# Altium footprint library PcbLib1.PcbLib: 202 footprints (part 10 of 13)
Each footprint in its own frame and in the unit in brackets; x right, y up, seen from the top. Pads: shape width x height; smd on the part's side, far side on the other; paste and mask are expansions set on the pad; w line width, h text height; cw(c..) or ccw(c..) is an arc to the next point about the centre after c.
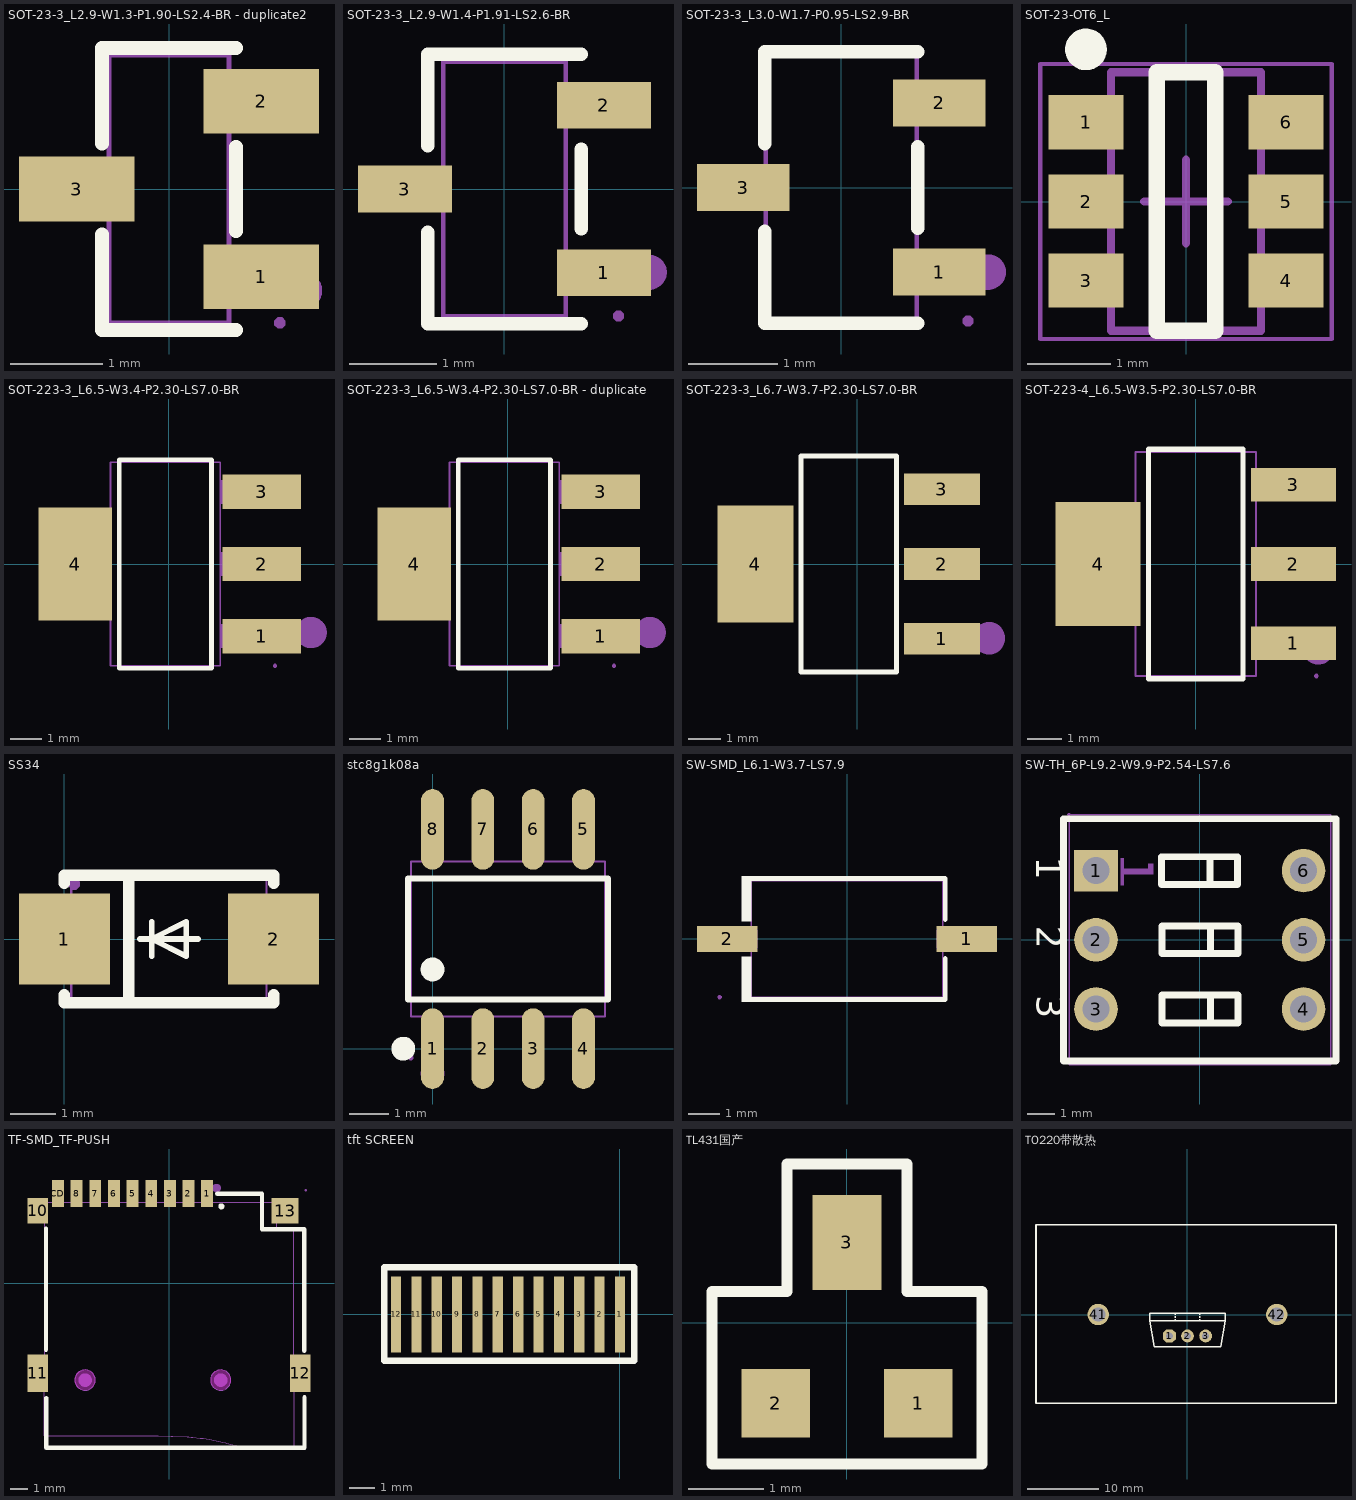
[diagram p9: the footprints below, top view; thin cyan lines are the x and y axes]

## SOT-23-3_L2.9-W1.3-P1.90-LS2.4-BR - duplicate2 [mm]
pads (3):
  rect 1.25x0.7 smd: 1(1,-0.95) 2(1,0.95) 3(-1,0)
Top Overlay:
  lines w0.152: -0.726,-0.495 -0.726,-1.526 0.726,-1.526 ; -0.726,0.495 -0.726,1.526 0.726,1.526 ; 0.726,-0.455 0.726,0.455
Mechanical 6:
  circle w0.2: c1.46,-1.1 r0.1
Mechanical 15:
  region: -1.2,-0.215 -1.2,0.215 -0.9,0.215 -0.9,-0.215
  region: -0.91,-0.215 -0.91,0.215 -0.64,0.215 -0.64,-0.215
  region: 0.9,-1.165 0.9,-0.735 1.2,-0.735 1.2,-1.165
  region: 0.64,-1.165 0.64,-0.735 0.91,-0.735 0.91,-1.165
  region: 0.9,0.735 0.9,1.165 1.2,1.165 1.2,0.735
  region: 0.64,0.735 0.64,1.165 0.91,1.165 0.91,0.735
  region: 1.26,-1.45 1.259,-1.426 1.224,-1.392 1.176,-1.392 1.141,-1.426 1.14,-1.45 1.141,-1.474 1.176,-1.508 1.224,-1.508 1.259,-1.474
  lines w0.051: -0.65,-1.45 0.65,-1.45 0.65,1.45 -0.65,1.45 -0.65,-1.45

## SOT-23-3_L2.9-W1.4-P1.91-LS2.6-BR [mm]
pads (3):
  rect 1.07x0.532 smd: 1(1.135,-0.955) 2(1.135,0.955) 3(-1.135,0)
Top Overlay:
  lines w0.152: -0.876,-0.495 -0.876,-1.536 0.876,-1.536 ; -0.876,0.495 -0.876,1.536 0.876,1.536 ; 0.876,-0.455 0.876,0.455
Mechanical 6:
  circle w0.2: c1.651,-0.95 r0.1
Mechanical 15:
  region: 1.36,-1.45 1.36,-1.425 1.325,-1.39 1.275,-1.39 1.24,-1.425 1.24,-1.45 1.24,-1.475 1.275,-1.51 1.325,-1.51 1.36,-1.475
  region: -0.96,-0.212 -0.96,0.212 -0.69,0.212 -0.69,-0.212
  region: -1.3,-0.212 -1.3,0.212 -0.95,0.212 -0.95,-0.212
  region: 0.69,0.742 0.69,1.167 0.96,1.167 0.96,0.742
  region: 0.95,0.742 0.95,1.167 1.3,1.167 1.3,0.742
  region: 0.69,-1.167 0.69,-0.742 0.96,-0.742 0.96,-1.167
  region: 0.95,-1.167 0.95,-0.742 1.3,-0.742 1.3,-1.167
  lines w0.051: -0.7,-1.45 -0.7,1.45 0.7,1.45 0.7,-1.45 -0.7,-1.45

## SOT-23-3_L3.0-W1.7-P0.95-LS2.9-BR [mm]
pads (3):
  rect 1.037x0.532 smd: 1(1.101,-0.95) 2(1.101,0.95) 3(-1.101,0)
Top Overlay:
  lines w0.152: -0.859,-0.495 -0.859,-1.526 0.859,-1.526 ; -0.859,0.495 -0.859,1.526 0.859,1.526 ; 0.859,-0.455 0.859,0.455
Mechanical 6:
  circle w0.2: c1.65,-0.95 r0.1
Mechanical 15:
  region: 1.485,-1.5 1.485,-1.475 1.45,-1.44 1.4,-1.44 1.365,-1.475 1.365,-1.5 1.365,-1.525 1.4,-1.56 1.45,-1.56 1.485,-1.525
  region: -1.01,-0.188 -1.01,0.188 -0.815,0.188 -0.815,-0.188
  region: -1.425,-0.188 -1.425,0.188 -1,0.188 -1,-0.188
  region: 0.815,0.762 0.815,1.137 1.01,1.137 1.01,0.762
  region: 1,0.762 1,1.137 1.425,1.137 1.425,0.762
  region: 0.815,-1.137 0.815,-0.762 1.01,-0.762 1.01,-1.137
  region: 1,-1.137 1,-0.762 1.425,-0.762 1.425,-1.137
  lines w0.051: -0.85,-1.5 0.85,-1.5 0.85,1.5 -0.85,1.5 -0.85,-1.5

## SOT-23-OT6_L [mm] "SOT23, 6-Leads, Body 2.9x1.6mm, Pitch 0.95mm, Lead Span 2.7mm, IPC High Density"
height 1.45
pads (6):
  rect 0.9x0.65 smd: 1(-1.2,0.95) 2(-1.2,0) 3(-1.2,-0.95) 4(1.2,-0.95) 5(1.2,0) 6(1.2,0.95)
Top Overlay:
  circle w0.25: c-1.2,1.825 r0.125
  lines w0.2: -0.35,-1.55 -0.35,1.55 0.35,1.55 0.35,-1.55 -0.35,-1.55
Mechanical 13:
  lines w0.1: -0.9,-1.55 0.9,-1.55 0.9,1.55 -0.9,1.55 -0.9,-1.55
Mechanical 15:
  lines w0.05: -1.75,-1.65 1.75,-1.65 1.75,1.65 -1.75,1.65 -1.75,-1.65
  lines w0.1: -0.5,0 0.5,0 ; 0,-0.5 0,0.5
3D body: height 1.45, standoff 0, extent -0.9,-1.55 0.9,1.55

## SOT-223-3_L6.5-W3.4-P2.30-LS7.0-BR [mm]
pads (4):
  rect 2.5x1.1 smd: 1(2.97,-2.3) 2(2.97,0) 3(2.97,2.3)
  rect 2.34x3.6 smd: 4(-2.97,0)
Top Overlay:
  lines w0.152: -1.571,-3.326 -1.571,3.326 1.371,3.326 1.371,-3.326 -1.571,-3.326
Mechanical 6:
  circle w0.5: c4.552,-2.188 r0.25
Mechanical 15:
  region: 3.46,-3.25 3.46,-3.225 3.425,-3.19 3.375,-3.19 3.34,-3.225 3.34,-3.25 3.34,-3.275 3.375,-3.31 3.425,-3.31 3.46,-3.275
  region: 1.64,1.925 1.64,2.675 2.66,2.675 2.66,1.925
  region: 2.65,1.925 2.65,2.675 3.4,2.675 3.4,1.925
  region: 1.64,-0.375 1.64,0.375 2.66,0.375 2.66,-0.375
  region: 2.65,-0.375 2.65,0.375 3.4,0.375 3.4,-0.375
  region: 1.64,-2.675 1.64,-1.925 2.66,-1.925 2.66,-2.675
  region: 2.65,-2.675 2.65,-1.925 3.4,-1.925 3.4,-2.675
  region: -2.86,-1.5 -2.86,1.5 -1.84,1.5 -1.84,-1.5
  region: -3.6,-1.5 -3.6,1.5 -2.85,1.5 -2.85,-1.5
  lines w0.051: -1.85,-3.25 -1.85,3.25 1.65,3.25 1.65,-3.25 -1.85,-3.25

## SOT-223-3_L6.5-W3.4-P2.30-LS7.0-BR - duplicate [mm]
pads (4):
  rect 2.5x1.1 smd: 1(2.97,-2.3) 2(2.97,0) 3(2.97,2.3)
  rect 2.34x3.6 smd: 4(-2.97,0)
Top Overlay:
  lines w0.152: -1.571,-3.326 1.371,-3.326 1.371,3.326 -1.571,3.326 -1.571,-3.326
Mechanical 6:
  circle w0.5: c4.552,-2.188 r0.25
Mechanical 15:
  region: -3.6,-1.5 -3.6,1.5 -2.85,1.5 -2.85,-1.5
  region: -2.86,-1.5 -2.86,1.5 -1.84,1.5 -1.84,-1.5
  region: 2.65,-2.675 2.65,-1.925 3.4,-1.925 3.4,-2.675
  region: 1.64,-2.675 1.64,-1.925 2.66,-1.925 2.66,-2.675
  region: 2.65,-0.375 2.65,0.375 3.4,0.375 3.4,-0.375
  region: 1.64,-0.375 1.64,0.375 2.66,0.375 2.66,-0.375
  region: 2.65,1.925 2.65,2.675 3.4,2.675 3.4,1.925
  region: 1.64,1.925 1.64,2.675 2.66,2.675 2.66,1.925
  region: 3.46,-3.25 3.46,-3.225 3.425,-3.19 3.375,-3.19 3.34,-3.225 3.34,-3.25 3.34,-3.275 3.375,-3.31 3.425,-3.31 3.46,-3.275
  lines w0.051: -1.85,-3.25 1.65,-3.25 1.65,3.25 -1.85,3.25 -1.85,-3.25

## SOT-223-3_L6.7-W3.7-P2.30-LS7.0-BR [mm]
pads (4):
  rect 2.34x0.98 smd paste+0 mask+0.051: 1(2.606,-2.3) 2(2.606,0) 3(2.606,2.3)
  rect 2.34x3.6 smd paste+0 mask+0.051: 4(-3.134,0)
Top Overlay:
  lines w0.152: -1.735,-3.326 1.207,-3.326 1.207,3.326 -1.735,3.326 -1.735,-3.326
Mechanical 15:
  circle w0.5: c4.054,-2.286 r0.25

## SOT-223-4_L6.5-W3.5-P2.30-LS7.0-BR [mm]
pads (4):
  rect 2.47x0.98 smd: 1(2.835,-2.3) 2(2.835,0) 3(2.835,2.3)
  rect 2.47x3.6 smd: 4(-2.835,0)
Top Overlay:
  lines w0.152: -1.371,-3.326 -1.371,3.326 1.371,3.326 1.371,-3.326 -1.371,-3.326
Mechanical 6:
  circle w0.5: c3.556,-2.413 r0.25
Mechanical 15:
  region: 3.56,-3.25 3.56,-3.225 3.525,-3.19 3.475,-3.19 3.44,-3.225 3.44,-3.25 3.44,-3.275 3.475,-3.31 3.525,-3.31 3.56,-3.275
  region: 2.55,-2.65 2.55,-1.95 3.5,-1.95 3.5,-2.65
  region: 1.74,-2.65 1.74,-1.95 2.56,-1.95 2.56,-2.65
  region: 2.55,-0.35 2.55,0.35 3.5,0.35 3.5,-0.35
  region: 1.74,-0.35 1.74,0.35 2.56,0.35 2.56,-0.35
  region: 2.55,1.95 2.55,2.65 3.5,2.65 3.5,1.95
  region: 1.74,1.95 1.74,2.65 2.56,2.65 2.56,1.95
  region: -2.55,-1.5 -2.55,1.5 -3.5,1.5 -3.5,-1.5
  region: -2.56,-1.5 -2.56,1.5 -1.74,1.5 -1.74,-1.5
  lines w0.051: -1.75,-3.25 -1.75,3.25 1.75,3.25 1.75,-3.25 -1.75,-3.25

## SS34 [mm]
pads (2):
  rect 2x2 smd mask+0.051: 1(0,0) 2(4.6,0)
Top Overlay:
  lines w0.127: 1.665,0 2.935,0 ; 1.919,-0.381 1.919,0 ; 1.919,0.381 1.919,0 ; 1.919,0 2.681,-0.381 2.681,0 2.681,0.381 1.919,0
  lines w0.254: 0,-1.231 0,-1.4 4.6,-1.4 4.6,-1.231 ; 0,1.231 0,1.4 4.6,1.4 4.6,1.231 ; 1.411,-1.4 1.411,1.4
Mechanical 6:
  region: -0.68,-0.157 -0.683,-0.14 -0.683,0.076 0.681,0.074 0.69,0.053 0.69,-0.164
  region: 4.581,0.447 4.581,-0.425 4.583,-0.427 4.69,-0.427 4.695,-0.422 4.695,0.447 4.69,0.452 4.573,0.452
  region: 5.295,0.028 3.917,0.028 3.917,0.136 4.02,0.142 5.287,0.14 5.291,0.144 5.291,0.032 5.293,0.03
Mechanical 15:
  region: 4.947,0.57 4.947,-0.57 4.197,-0.57 4.197,0.57
  region: 0.402,0.57 0.402,-0.57 -0.348,-0.57 -0.348,0.57
  region: 0.332,1.208 0.332,1.258 0.262,1.328 0.162,1.328 0.092,1.258 0.092,1.208 0.092,1.158 0.162,1.088 0.262,1.088 0.332,1.158
  lines w0.051: 0.152,-1.335 4.447,-1.335 4.447,1.335 0.152,1.335 0.152,-1.335

## stc8g1k08a [mm]
pads (8):
  oval 0.574x2.036 smd mask+0.051: 1(0,0) 2(1.27,0) 3(2.54,0) 4(3.81,0) 5(3.81,5.536) 6(2.54,5.536) 7(1.27,5.536) 8(0,5.536)
Top Overlay:
  circle w0.3: c0,1.999 r0.15
  circle w0.3: c-0.739,0 r0.15
  lines w0.152: -0.621,1.246 -0.621,4.289 4.431,4.289 4.431,1.246 -0.621,1.246
Mechanical 6:
  circle w0.3: c0,-0.63 r0.15
Mechanical 15:
  region: -0.485,-0.23 -0.485,-0.205 -0.52,-0.17 -0.57,-0.17 -0.605,-0.205 -0.605,-0.23 -0.605,-0.255 -0.57,-0.29 -0.52,-0.29 -0.485,-0.255
  region: -0.205,-0.23 -0.205,0.605 0.205,0.605 0.205,-0.23
  region: -0.205,0.595 -0.205,0.828 0.205,0.828 0.205,0.595
  region: 1.065,-0.23 1.065,0.605 1.475,0.605 1.475,-0.23
  region: 1.065,0.595 1.065,0.828 1.475,0.828 1.475,0.595
  region: 2.335,-0.23 2.335,0.605 2.745,0.605 2.745,-0.23
  region: 2.335,0.595 2.335,0.828 2.745,0.828 2.745,0.595
  region: 3.605,-0.23 3.605,0.605 4.015,0.605 4.015,-0.23
  region: 3.605,0.595 3.605,0.828 4.015,0.828 4.015,0.595
  region: -0.205,5.765 -0.205,4.93 0.205,4.93 0.205,5.765
  region: -0.205,4.94 -0.205,4.708 0.205,4.708 0.205,4.94
  region: 1.065,5.765 1.065,4.93 1.475,4.93 1.475,5.765
  region: 1.065,4.94 1.065,4.708 1.475,4.708 1.475,4.94
  region: 2.335,5.765 2.335,4.93 2.745,4.93 2.745,5.765
  region: 2.335,4.94 2.335,4.708 2.745,4.708 2.745,4.94
  region: 3.605,5.765 3.605,4.93 4.015,4.93 4.015,5.765
  region: 3.605,4.94 3.605,4.708 4.015,4.708 4.015,4.94
  lines w0.051: -0.545,0.818 -0.545,4.718 4.355,4.718 4.355,0.818 -0.545,0.818

## SW-SMD_L6.1-W3.7-LS7.9 [mm]
pads (2):
  rect 1.92x0.84 smd: 1(3.81,0) 2(-3.81,0)
Top Overlay:
  region: -3.05,2.002 -3.05,0.572 -3.355,0.572 -3.355,2.002
  region: -3.05,-2.002 -3.05,-0.572 -3.355,-0.572 -3.355,-2.002
  lines w0.152: -3.126,-1.926 3.126,-1.926 3.126,-0.623 ; -3.126,1.926 3.126,1.926 3.126,0.623
Mechanical 15:
  region: -3.99,-1.85 -3.99,-1.825 -4.025,-1.79 -4.075,-1.79 -4.11,-1.825 -4.11,-1.85 -4.11,-1.875 -4.075,-1.91 -4.025,-1.91 -3.99,-1.875
  region: -4.05,-0.3 -4.05,0.3 -2.85,0.3 -2.85,-0.3
  region: 4.05,-0.3 4.05,0.3 2.85,0.3 2.85,-0.3
  lines w0.051: -3.05,-1.85 -3.05,1.85 3.05,1.85 3.05,-1.85 -3.05,-1.85

## SW-TH_6P-L9.2-W9.9-P2.54-LS7.6 [mm]
pads (6):
  rect 1.6x1.524 hole 1: 1(-3.81,2.54)
  round 1.6 hole 1: 2(-3.81,0) 3(-3.81,-2.54) 4(3.81,-2.54) 5(3.81,0) 6(3.81,2.54)
Top Overlay:
  lines w0.254: -5,4.445 -5,-4.445 5,-4.445 5,4.445 ; -4.953,4.445 4.953,4.445 ; 0.371,2.159 0.371,3.048 ; 0.391,-2.921 0.391,-2.032 ; 0.391,-0.381 0.391,0.508 ; -1.407,2.032 1.387,2.032 1.387,3.048 -1.407,3.048 -1.407,2.032 ; -1.387,-3.048 1.407,-3.048 1.407,-2.032 -1.387,-2.032 -1.387,-3.048 ; -1.387,-0.508 1.407,-0.508 1.407,0.508 -1.387,0.508 -1.387,-0.508
  text "3" at -5.992,-2.032 h0.98
  text "2" at -5.992,0.508 h0.98
  text "1" at -6.013,3.048 h0.98
Mechanical 6:
  region: -2.8,3 -2.8,2 -2.9,2 -2.9,3
  region: -1.7,2.6 -1.7,2.8 -1.9,2.8 -1.9,2.6
  region: -2.9,2.4 -1.7,2.4 -1.7,2.6 -2.9,2.6
Mechanical 15:
  region: 3.66,2.84 3.96,2.84 3.96,2.24 3.66,2.24
  region: 3.66,0.3 3.96,0.3 3.96,-0.3 3.66,-0.3
  region: 3.66,-2.24 3.96,-2.24 3.96,-2.84 3.66,-2.84
  region: -3.96,-2.24 -3.66,-2.24 -3.66,-2.84 -3.96,-2.84
  region: -3.96,0.3 -3.66,0.3 -3.66,-0.3 -3.96,-0.3
  region: -4.033,2.289 -3.877,2.869 -3.587,2.791 -3.743,2.211
  region: -4.74,4.59 -4.74,4.615 -4.775,4.65 -4.825,4.65 -4.86,4.615 -4.86,4.59 -4.86,4.565 -4.825,4.53 -4.775,4.53 -4.74,4.565
  lines w0.051: -4.8,-4.59 4.8,-4.59 4.8,4.59 -4.8,4.59 -4.8,-4.59

## TF-SMD_TF-PUSH [mm]
pads (13):
  rect 0.7x1.6 smd: 1(2.25,5.3) 2(1.15,5.3) 3(0.05,5.3) 4(-1.05,5.3) 5(-2.15,5.3) 6(-3.25,5.3) 7(-4.35,5.3) 8(-5.45,5.3) CD(-6.55,5.3)
  rect 1.2x1.5 smd: 10(-7.75,4.3)
  rect 1.2x2.2 smd: 11(-7.75,-5.3) 12(7.75,-5.3)
  rect 1.6x1.5 smd: 13(6.85,4.3)
Top Overlay:
  circle w0.254: c3.087,4.552 r0.052
  lines w0.254: -7.26,-3.91 -7.26,3.25 ; -7.24,-6.76 -7.24,-9.7 8,-9.7 8,-6.71 ; 2.85,5.3 4.702,5.3 5.489,5.3 5.489,3.199 5.5,3.2 ; 5.49,3.2 7.98,3.2 7.98,-3.969
Keep-Out Layer:
  board cut-out: 3.65,-5.7 3.65,-5.581 3.559,-5.36 3.39,-5.191 3.169,-5.1 2.931,-5.1 2.71,-5.191 2.541,-5.36 2.45,-5.581 2.45,-5.7 2.45,-5.819 2.541,-6.04 2.71,-6.209 2.931,-6.3 3.169,-6.3 3.39,-6.209 3.559,-6.04 3.65,-5.819
  board cut-out: -4.35,-5.7 -4.35,-5.581 -4.441,-5.36 -4.61,-5.191 -4.831,-5.1 -5.069,-5.1 -5.29,-5.191 -5.459,-5.36 -5.55,-5.581 -5.55,-5.7 -5.55,-5.819 -5.459,-6.04 -5.29,-6.209 -5.069,-6.3 -4.831,-6.3 -4.61,-6.209 -4.441,-6.04 -4.35,-5.819
Mechanical 1:
  circle w0.005: c3.05,-5.7 r0.6
  circle w0.005: c-4.95,-5.7 r0.6
Mechanical 6:
  circle w0.254: c2.81,5.63 r0.127
  circle w0.4: c-4.95,-5.7 r0.2
  circle w0.4: c3.05,-5.7 r0.2
Mechanical 15:
  region: 8.069,-6.092 8.068,-4.492 7.369,-4.492 7.369,-6.091 7.429,-6.091
  region: -7.369,-6.094 -7.37,-4.494 -8.069,-4.494 -8.069,-6.094 -8.009,-6.094
  region: 6.481,3.805 7.181,3.805 7.181,4.805 6.494,4.805 6.469,4.806 6.472,4.752 6.473,4.671 6.474,4.498
  region: -7.37,3.806 -8.069,3.806 -8.07,4.806 -7.383,4.806 -7.382,4.805 -7.384,4.498
  region: 2.1,5.505 2.4,5.505 2.4,4.805 2.1,4.805
  region: 1,5.505 1.3,5.505 1.3,4.805 1,4.805
  region: -0.1,5.505 0.2,5.505 0.2,4.805 -0.1,4.805
  region: -1.2,5.505 -0.9,5.505 -0.9,4.805 -1.2,4.805
  region: -2.3,5.505 -2,5.505 -2,4.805 -2.3,4.805
  region: -3.4,5.505 -3.1,5.505 -3.1,4.805 -3.4,4.805
  region: -4.5,5.505 -4.2,5.505 -4.2,4.805 -4.5,4.805
  region: -5.6,5.505 -5.3,5.505 -5.3,4.805 -5.6,4.805
  region: -6.7,5.505 -6.4,5.505 -6.4,4.805 -6.7,4.805
  region: 8.13,5.505 8.129,5.529 8.094,5.562 8.046,5.562 8.011,5.529 8.01,5.505 8.011,5.481 8.046,5.448 8.094,5.448 8.129,5.481
  lines w0.051: -8.07,4.806 7.181,4.806 ; -8.07,4.806 -8.07,4.806 ; -8.07,4.806 -8.07,3.806 -7.37,3.806 -7.37,-4.494 -8.07,-4.494 -8.07,-6.094 -7.37,-6.094 -7.37,-8.994 -6.352,-8.995 -2.476,-8.986 -1.695,-8.99 -0.648,-8.989 0.138,-8.999 0.232,-9.003 1.09,-9.042 1.163,-9.05 1.308,-9.069 1.414,-9.075 1.841,-9.121 2.012,-9.136 2.38,-9.204 3.048,-9.34 3.176,-9.371 3.348,-9.403 3.411,-9.421 3.876,-9.552 4.14,-9.628 4.388,-9.695 4.389,-9.694 7.379,-9.694 7.38,-9.693 7.38,-6.094 8.07,-6.094 ; 7.181,4.806 7.181,3.806 7.181,3.806 6.33,3.806 6.33,3.306 7.229,3.306 7.229,3.206 7.37,3.206 7.37,-4.494 7.37,-4.494 8.069,-4.494 8.07,-4.495 8.07,-6.094 ; 7.181,4.806 7.181,4.806 ; 8.07,-6.094 8.07,-6.094
Multi-Layer keep-out:
  region: 3.65,-5.7 3.65,-5.581 3.559,-5.36 3.39,-5.191 3.169,-5.1 2.931,-5.1 2.71,-5.191 2.541,-5.36 2.45,-5.581 2.45,-5.7 2.45,-5.819 2.541,-6.04 2.71,-6.209 2.931,-6.3 3.169,-6.3 3.39,-6.209 3.559,-6.04 3.65,-5.819
  region: -4.35,-5.7 -4.35,-5.581 -4.441,-5.36 -4.61,-5.191 -4.831,-5.1 -5.069,-5.1 -5.29,-5.191 -5.459,-5.36 -5.55,-5.581 -5.55,-5.7 -5.55,-5.819 -5.459,-6.04 -5.29,-6.209 -5.069,-6.3 -4.831,-6.3 -4.61,-6.209 -4.441,-6.04 -4.35,-5.819

## tft SCREEN [mm]
pads (12):
  rect 0.4x3 smd paste+0 mask+0.102: 1(0,0) 2(-0.8,0) 3(-1.6,0) 4(-2.4,0) 5(-3.2,0) 6(-4,0) 7(-4.8,0) 8(-5.6,0) 9(-6.4,0) 10(-7.2,0) 11(-8,0) 12(-8.8,0)
Top Overlay:
  lines w0.254: -9.271,-1.825 0.567,-1.825 0.567,1.858 -9.271,1.858 -9.271,-1.825
Mechanical 15:
  text "1" at -0.127,2.159 h1.6
  text "12" at -9.525,2.159 h1.6

## TL431国产 [mil]
pads (3):
  rect 36x36 smd: 1(37.4,-42.18) 2(-37.4,-42.18)
  rect 36x50 smd: 3(0,42.18)
Top Overlay:
  lines w5.91: -70.87,-74.11 70.87,-74.11 70.87,16.44 31.5,16.44 31.5,83.37 -31.5,83.37 -31.5,16.44 -70.87,16.44 -70.87,-74.11
3D body "SOT-23.STEP": height 43, standoff 0, extent -55,-51 55,45

## TO220带散热 [mm]
pads (5):
  oct 1.8x1.8 hole 1: 1(-2.54,-3)
  round 1.8 hole 1: 2(0,-3) 3(2.54,-3)
  round 3 hole 2: 41(-12.5,0) 42(12.5,0)
Top Overlay:
  lines w0.2: -1.693,-0.883 -1.693,-0.672 ; -1.693,-0.46 -1.693,-0.248 ; -1.693,-0.037 -1.693,0.175 ; 1.693,-0.883 1.693,-0.672 ; 1.693,-0.46 1.693,-0.248 ; 1.693,-0.037 1.693,0.175 ; -5.292,-0.883 5.292,-0.883 ; -5.292,-0.883 -4.657,-4.482 4.657,-4.482 5.292,-0.883 ; -5.292,-0.883 -5.292,0.175 5.292,0.175 5.292,-0.883
  lines w0.254: -21.209,-12.427 -21.209,12.573 20.791,12.573 20.791,-12.427 -21.209,-12.427